# EAGLE library part MICROSD (library nintendo-classic)
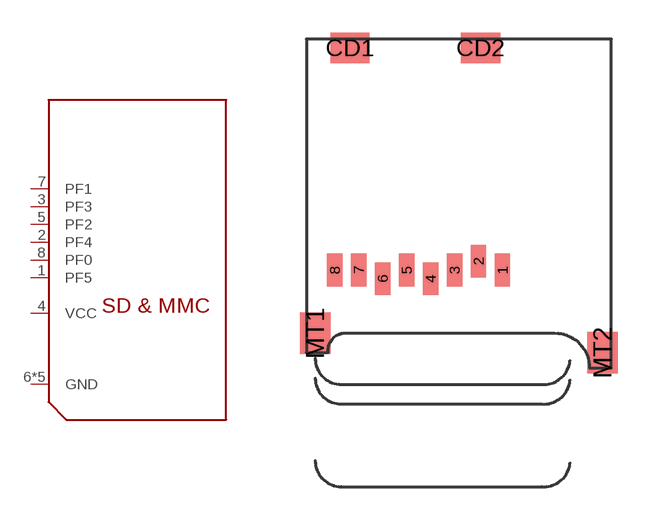
[diagram p1: symbol with the pads of MICROSD; footprint MICROSD]

Designator prefix -

## MICROSD  [MICROSD]
1  PF5
2  PF4  in
3  PF3  in
4  VCC  sup
5  PF2  in
6  GND  sup
7  PF1  out
8  PF0
CD1  GND  sup
CD2  GND  sup
MT1  GND  sup
MT2  GND  sup

## Footprint MICROSD (pad centres in mm)
smd 0.7 x 1.5: 1 9,-10.64; 2 7.9,-10.24; 3 6.8,-10.64; 4 5.7,-11.04; 5 4.6,-10.64; 6 3.5,-11.04; 7 2.4,-10.64; 8 1.3,-10.64
smd 1.8 x 1.4: CD1 2,-0.44; CD2 8,-0.44
smd 1.4 x 1.9: MT1 0.4,-13.54; MT2 13.6,-14.44